# EAGLE library part WE-RJ45_7499511002A (library 74980104400_Eagle_WE-RJ45_rev19b)
WE-RJ45 LAN Transformer Characteristics RJ45 Connector with integrated transformer / common mode choke Power over Ethernet up to 50 Watt and speeds up to 10 Gbit/s Available in SMD, THT and THT with USB Compliant with standards: IEEE 802.3u, IEEE 802.3ab, IEEE 802.3af, IEEE 802.3at, IEEE 802.3an and upcoming IEE 802.3bt Applications Suitable for industrial temperatures from –40 °C up to +85 °C Compatible to Industrial Ethernet systems like EtherCAT or Profinet Compliant with most IC’s for Ethernet applications such as Microchip, Texas Instruments, Broadcom, Linear Technology Hubs, Routers, Switches, IP cameras, IoT applications <https://katalog.we-online.com/media/images/v2/o35731v209%20Family_WE-RJ45-LAN.jpg> Details see: https://katalog.we-online.com/en/pbs/WE-LAN-RJ45 Updated by Ella Wu 2019-08-05 2019 (C) Wurth Elektronik
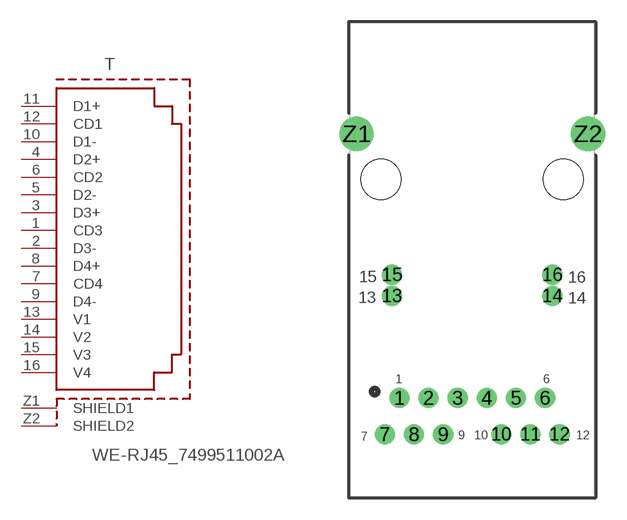
[diagram p74: symbol with the pads of 7499511002A; footprint 7499511002A]

Designator prefix T

## WE-RJ45_7499511002A (DATA-RATE: 10/100/1000 Base-T; DATASHEET-URL: https://katalog.we-online.com/pbs/datasheet/7499511002A.pdf; LED: -; MOUNT: THT; PART-NUMBER: 7499511002A; POE: PoE+ (up to 600 mA); PORTS: 1; USB: No)  [7499511002A]
1  CD3
2  D3-
3  D3+
4  D2+
5  D2-
6  CD2
7  CD4
8  D4+
9  D4-
10  D1-
11  D1+
12  CD1
13  V1
14  V2
15  V3
16  V4
Z1  SHIELD1  pwr
Z2  SHIELD2  pwr

## Footprint 7499511002A (pad centres in mm)
WE-RJ45 LAN Transformer 10/100/1000 Base-T
drill 0.9: 1 -5.075,-15.24; 2 -3.045,-15.24; 3 -1.015,-15.24; 4 1.015,-15.24; 5 3.045,-15.24; 6 5.075,-15.24; 7 -6.09,-17.78; 8 -4.06,-17.78; 9 -2.03,-17.78; 10 2.03,-17.78; 11 4.06,-17.78; 12 6.09,-17.78; 13 -5.59,-8.13; 14 5.59,-8.13; 15 -5.59,-6.66; 16 5.59,-6.66
drill 1.6: Z1 -8.065,3.18; Z2 8.065,3.18
hole 2.8 at -6.35,0
hole 2.8 at 6.35,0